# Altium schematic symbol library 2016-02-19_06-32-22.SchLib: 16 symbols
Pins are listed as number, name and electrical type; pins without a type are passive.

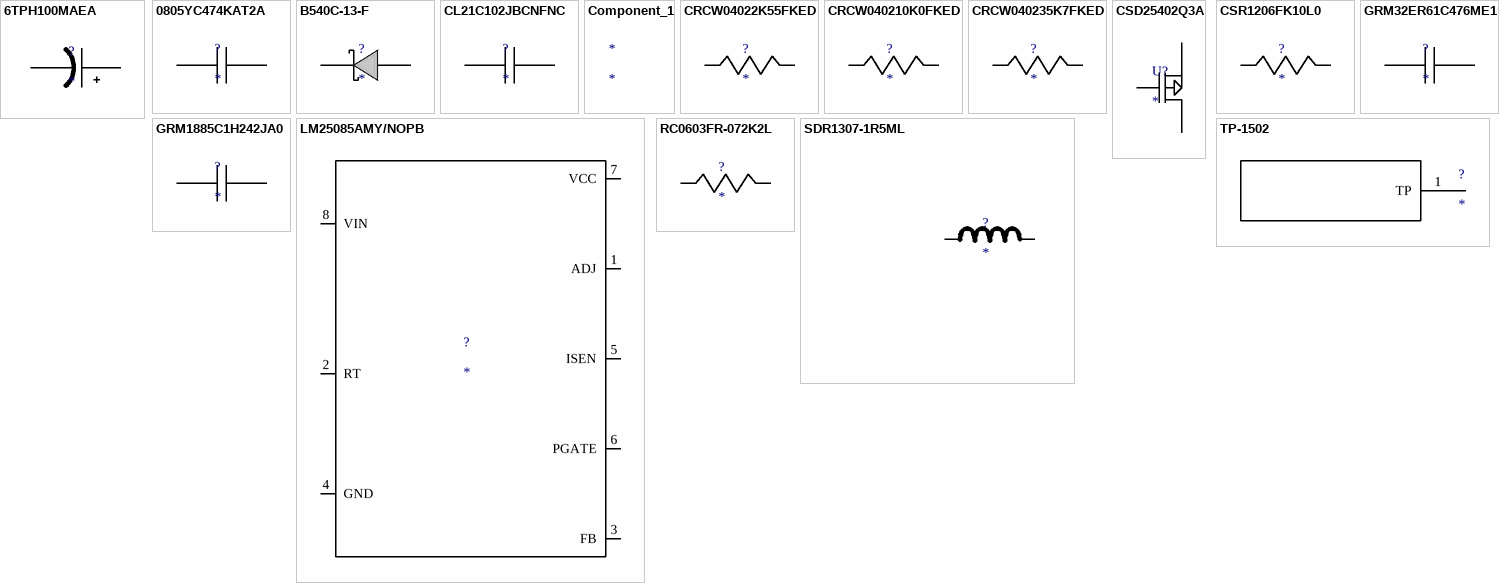
[diagram p0: symbols 6TPH100MAEA to TP-1502]

## 6TPH100MAEA
designator ?
Imported; Manufacturer_Part_Number: 6TPH100MAEA; Vendor: Panasonic; RefDes: RefDes; TYPE: TYPE; Value: Value
footprint CAPSMT_6_A09
pins: 1 +, 2 -

## 0805YC474KAT2A
designator ?
Imported; Manufacturer_Part_Number: 0805YC474KAT2A; Vendor: AVX; RefDes: RefDes; TYPE: TYPE; Value: Value
footprint 0805
pins: 1, 2

## B540C-13-F
designator ?
Imported; Manufacturer_Part_Number: B540C-13-F; Vendor: Diodes Inc.; RefDes: RefDes; Type: Type; Value: Value
footprint SMC
pins: 1 K, 2 A

## CL21C102JBCNFNC
designator ?
Imported; Manufacturer_Part_Number: CL21C102JBCNFNC; Vendor: Samsung Electro-Mechanics; RefDes: RefDes; TYPE: TYPE; Value: Value
footprint 0805
pins: 1, 2

## Component_1
designator *

## CRCW04022K55FKED
designator ?
Imported; Manufacturer_Part_Number: CRCW04022K55FKED; Vendor: Vishay-Dale; RefDes: RefDes; TYPE: TYPE; Value: Value
footprint 0402
pins: 1, 2

## CRCW040210K0FKED
designator ?
Imported; Manufacturer_Part_Number: CRCW040210K0FKED; Vendor: Vishay-Dale; RefDes: RefDes; TYPE: TYPE; Value: Value
footprint 0402
pins: 1, 2

## CRCW040235K7FKED
designator ?
Imported; Manufacturer_Part_Number: CRCW040235K7FKED; Vendor: Vishay-Dale; RefDes: RefDes; TYPE: TYPE; Value: Value
footprint 0402
pins: 1, 2

## CSD25402Q3A
designator U?
Imported; PartNumber: CSD25402Q3A; Manufacturer: Texas Instruments; CompType: MOSFET; ChType: P; Value: -20V; VdsMax_V: -20; Value1: 0.0077 ohm; Rdson45_ohm: 0.0077; Value2: 7.5 nC; QgTyp_nC: 7.5; Vgs_V: 12; IdsMax_A: -15; PIN_COUNT: 9; PackageReference: SON 3.3x3.3mm; RoHS: Y; MountType: SMT; Published: 2008-06-19; LatestRevisionNote: Added parts.; Supplier 1: Digi-Key; Supplier Part Number 1: CSD25402Q3A-ND; Supplier 2: Mouser; Supplier Part Number 2: 595-CSD25402Q3A; RefDes: RefDes; TYPE: TYPE; Value: Value
footprint TRANS_NEXFET_Q3A
pins: 1 Drain, 2 Drain, 3 Drain, 4 Gate, 5 Source, 6 Source, 7 Source, 8 Source, 9 Source

## CSR1206FK10L0
designator ?
Imported; Manufacturer_Part_Number: CSR1206FK10L0; Vendor: Stackpole Electronics Inc; RefDes: RefDes; TYPE: TYPE; Value: Value
footprint 1206
pins: 1, 2

## GRM32ER61C476ME1
designator ?
Imported; Manufacturer_Part_Number: GRM32ER61C476ME15L; Vendor: MuRata; RefDes: RefDes; TYPE: TYPE; Value: Value
footprint 1210_280
pins: 1, 2

## GRM1885C1H242JA0
designator ?
Imported; Manufacturer_Part_Number: GRM1885C1H242JA01D; Vendor: MuRata; RefDes: RefDes; TYPE: TYPE; Value: Value
footprint 0603
pins: 1, 2

## LM25085AMY/NOPB
designator ?
Imported; Manufacturer_Part_Number: LM5085MY/NOPB; Vendor: Texas Instruments; RefDes: RefDes; TYPE: TYPE; Value: Value
footprint MUY08A
pins: 1 ADJ, 2 RT, 3 FB, 4 GND, 5 ISEN, 6 PGATE, 7 VCC, 8 VIN, 9 GND

## RC0603FR-072K2L
designator ?
Imported; Manufacturer_Part_Number: RC0603FR-072K2L; Vendor: Yageo America; RefDes: RefDes; TYPE: TYPE; Value: Value
footprint 0603
pins: 1, 2

## SDR1307-1R5ML
designator ?
Imported; Manufacturer_Part_Number: SDR1307-1R5ML; Vendor: Bourns; RefDes: RefDes; TYPE: TYPE; Value: Value
footprint SDR1307
pins: 1, 2

## TP-1502
designator ?
Imported; RefDes: RefDes; Type: Type; Value: Value
footprint TP-1502
pins: 1 TP